# Altium footprint library SRD-05VDC-SL-C.PcbLib: 1 footprints
Each footprint in its own frame and in the unit in brackets; x right, y up, seen from the top. Pads: shape width x height; smd on the part's side, far side on the other; paste and mask are expansions set on the pad; w line width, h text height; cw(c..) or ccw(c..) is an arc to the next point about the centre after c.
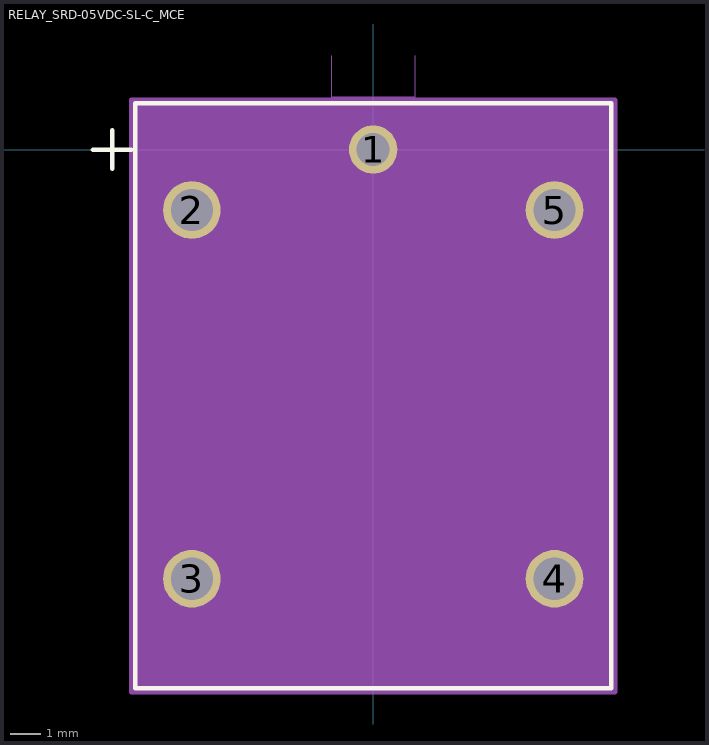
[diagram p0: the footprint, top view; thin cyan lines are the x and y axes]

## RELAY_SRD-05VDC-SL-C_MCE [mil]
pads (5):
  round 63 hole 43 paste-31.5 mask+0: 1(0,0)
  round 75 hole 55 paste-37.5 mask+0: 2(-236.22,-78.74) 3(-236.22,-559.09) 4(236.22,-559.09) 5(236.22,-78.74)
Top Overlay:
  lines w6: -365,0 -315,0 ; -340,-25 -340,25 ; -310,-701.88 310,-701.88 310,60.12 -310,60.12 -310,-701.88
  text ".Designator" at -137.5,-345.88 h50
Mechanical 13:
  lines w1: -365,0 -315,0 ; -340,-25 -340,0 ; -54.17,122.12 -54.17,67.95 54.17,67.95 54.17,122.12 ; -305,-696.88 305,-696.88 305,55.12 -305,55.12 -305,-696.88
  text ".Designator" at -137.5,-345.88 h50
Mechanical 15:
  region: 315,65.12 -315,65.12 -315,-706.88 315,-706.88
  region: 305,-696.88 -305,-696.88 -305,55.12 305,55.12
  lines w6: -315,-706.88 -315,65.12 315,65.12 315,-706.88 -315,-706.88